# Altium footprint library mosfet.PcbLib: 1 footprints
Each footprint in its own frame and in the unit in brackets; x right, y up, seen from the top. Pads: shape width x height; smd on the part's side, far side on the other; paste and mask are expansions set on the pad; w line width, h text height; cw(c..) or ccw(c..) is an arc to the next point about the centre after c.
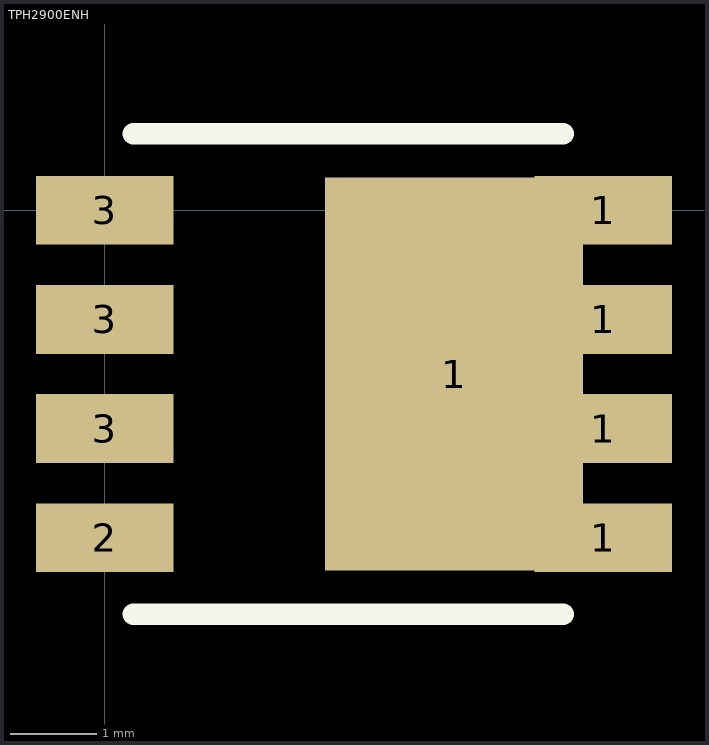
[diagram p0: the footprint, top view; thin cyan lines are the x and y axes]

## TPH2900ENH [mm]
pads (9):
  rect 3x4.572 smd: 1(4.064,-1.905)
  rect 1.6x0.8 smd: 1(5.8,-3.81) 1(5.8,-2.54) 1(5.8,-1.27) 1(5.8,0) 2(0,-3.81) 3(0,-2.54) 3(0,-1.27) 3(0,0)
Top Overlay:
  lines w0.254: 0.334,-4.699 5.334,-4.699 ; 0.334,0.889 5.334,0.889